# Altium footprint library TL1963A-33DCYR.PcbLib: 3 footprints
Each footprint in its own frame and in the unit in brackets; x right, y up, seen from the top. Pads: shape width x height; smd on the part's side, far side on the other; paste and mask are expansions set on the pad; w line width, h text height; cw(c..) or ccw(c..) is an arc to the next point about the centre after c.
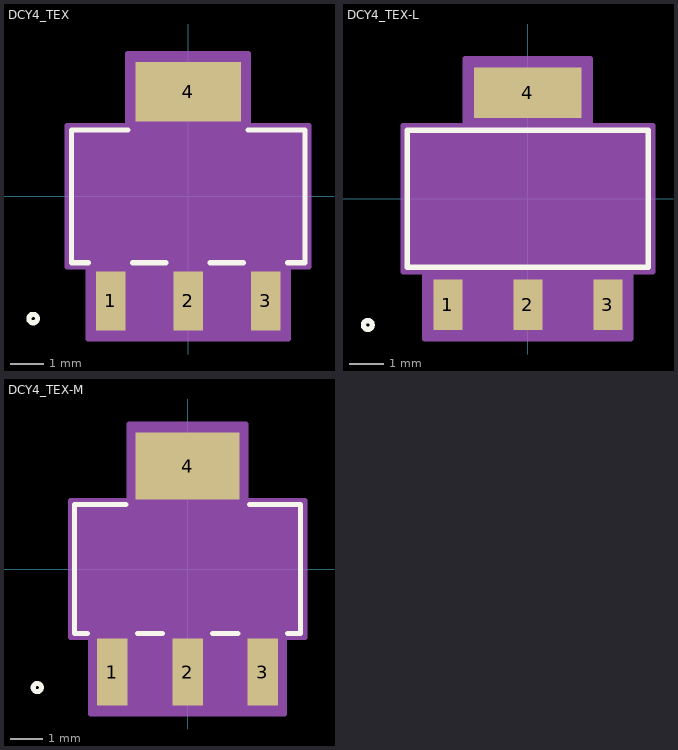
[diagram p0: the footprints below, top view; thin cyan lines are the x and y axes]

## DCY4_TEX [mil]
pads (4):
  rect 35x69.5 smd paste+0 mask+0: 1(-91,-122.75) 2(0,-122.75) 3(91,-122.75)
  rect 124x69.5 smd paste+0 mask+0: 4(0,122.75)
Top Overlay:
  circle w6: c-182,-143.5 r5
  lines w6: -116.96,-78 -137,-78 -137,78 -70.46,78 ; -65.04,-78 -25.96,-78 ; 25.96,-78 65.04,-78 ; 70.46,78 137,78 137,-78 116.96,-78
Mechanical 13:
  circle w0: c-122,-63 r5
  lines w1: -132,-73 132,-73 132,73 -132,73 -132,-73 ; -107.5,-143.5 -107.5,-73 -74.5,-73 -74.5,-143.5 -107.5,-143.5 ; -61,73 61,73 61,143.5 -61,143.5 -61,73 ; -16.5,-143.5 -16.5,-73 16.5,-73 16.5,-143.5 -16.5,-143.5 ; 74.5,-143.5 74.5,-73 107.5,-73 107.5,-143.5 74.5,-143.5
Mechanical 15:
  region: -142,-83 -142,83 -71,83 -71,167.5 71,167.5 71,83 142,83 142,-83 117.5,-83 117.5,-167.5 -117.5,-167.5 -117.5,-83
  lines w6: -142,-83 -142,83 -71,83 -71,167.5 71,167.5 71,83 142,83 142,-83 117.5,-83 117.5,-167.5 -117.5,-167.5 -117.5,-83 -142,-83
3D body "DCY4_TEX.step": height 67.09, standoff 0, extent -132.01,-143.5 132.01,143.5

## DCY4_TEX-L [mil]
pads (4):
  rect 33x57.5 smd paste+0 mask+0: 1(-91,-120.75) 2(0,-120.75) 3(91,-120.75)
  rect 122x57.5 smd paste+0 mask+0: 4(0,120.75)
Top Overlay:
  circle w6: c-182,-143.5 r5
  lines w6: -137,-78 137,-78 137,78 -137,78 -137,-78
Mechanical 13:
  circle w0: c-122,-63 r5
  lines w1: -132,-73 132,-73 132,73 -132,73 -132,-73 ; -107.5,-143.5 -107.5,-73 -74.5,-73 -74.5,-143.5 -107.5,-143.5 ; -61,73 61,73 61,143.5 -61,143.5 -61,73 ; -16.5,-143.5 -16.5,-73 16.5,-73 16.5,-143.5 -16.5,-143.5 ; 74.5,-143.5 74.5,-73 107.5,-73 107.5,-143.5 74.5,-143.5
Mechanical 15:
  region: -142,-83 -142,83 -71,83 -71,159.5 71,159.5 71,83 142,83 142,-83 117.5,-83 117.5,-159.5 -117.5,-159.5 -117.5,-83
  lines w6: -142,-83 -142,83 -71,83 -71,159.5 71,159.5 71,83 142,83 142,-83 117.5,-83 117.5,-159.5 -117.5,-159.5 -117.5,-83 -142,-83
3D body "DCY4_TEX.step": height 67.09, standoff 0, extent -132.01,-143.5 132.01,143.5

## DCY4_TEX-M [mil]
pads (4):
  rect 37x81.5 smd paste+0 mask+0: 1(-91,-124.75) 2(0,-124.75) 3(91,-124.75)
  rect 126x81.5 smd paste+0 mask+0: 4(0,124.75)
Top Overlay:
  circle w6: c-182,-143.5 r5
  lines w6: -121.15,-78 -137,-78 -137,78 -74.65,78 ; -60.85,-78 -30.15,-78 ; 30.15,-78 60.85,-78 ; 74.65,78 137,78 137,-78 121.15,-78
Mechanical 13:
  circle w0: c-122,-63 r5
  lines w1: -132,-73 132,-73 132,73 -132,73 -132,-73 ; -107.5,-143.5 -107.5,-73 -74.5,-73 -74.5,-143.5 -107.5,-143.5 ; -61,73 61,73 61,143.5 -61,143.5 -61,73 ; -16.5,-143.5 -16.5,-73 16.5,-73 16.5,-143.5 -16.5,-143.5 ; 74.5,-143.5 74.5,-73 107.5,-73 107.5,-143.5 74.5,-143.5
Mechanical 15:
  region: -142,-83 -142,83 -71,83 -71,175.5 71,175.5 71,83 142,83 142,-83 117.5,-83 117.5,-175.5 -117.5,-175.5 -117.5,-83
  lines w6: -142,-83 -142,83 -71,83 -71,175.5 71,175.5 71,83 142,83 142,-83 117.5,-83 117.5,-175.5 -117.5,-175.5 -117.5,-83 -142,-83
3D body "DCY4_TEX.step": height 67.09, standoff 0, extent -132.01,-143.5 132.01,143.5